# Altium integrated library Maxim Logic Multiplexer.IntLib: 168 symbols (part 2 of 4)
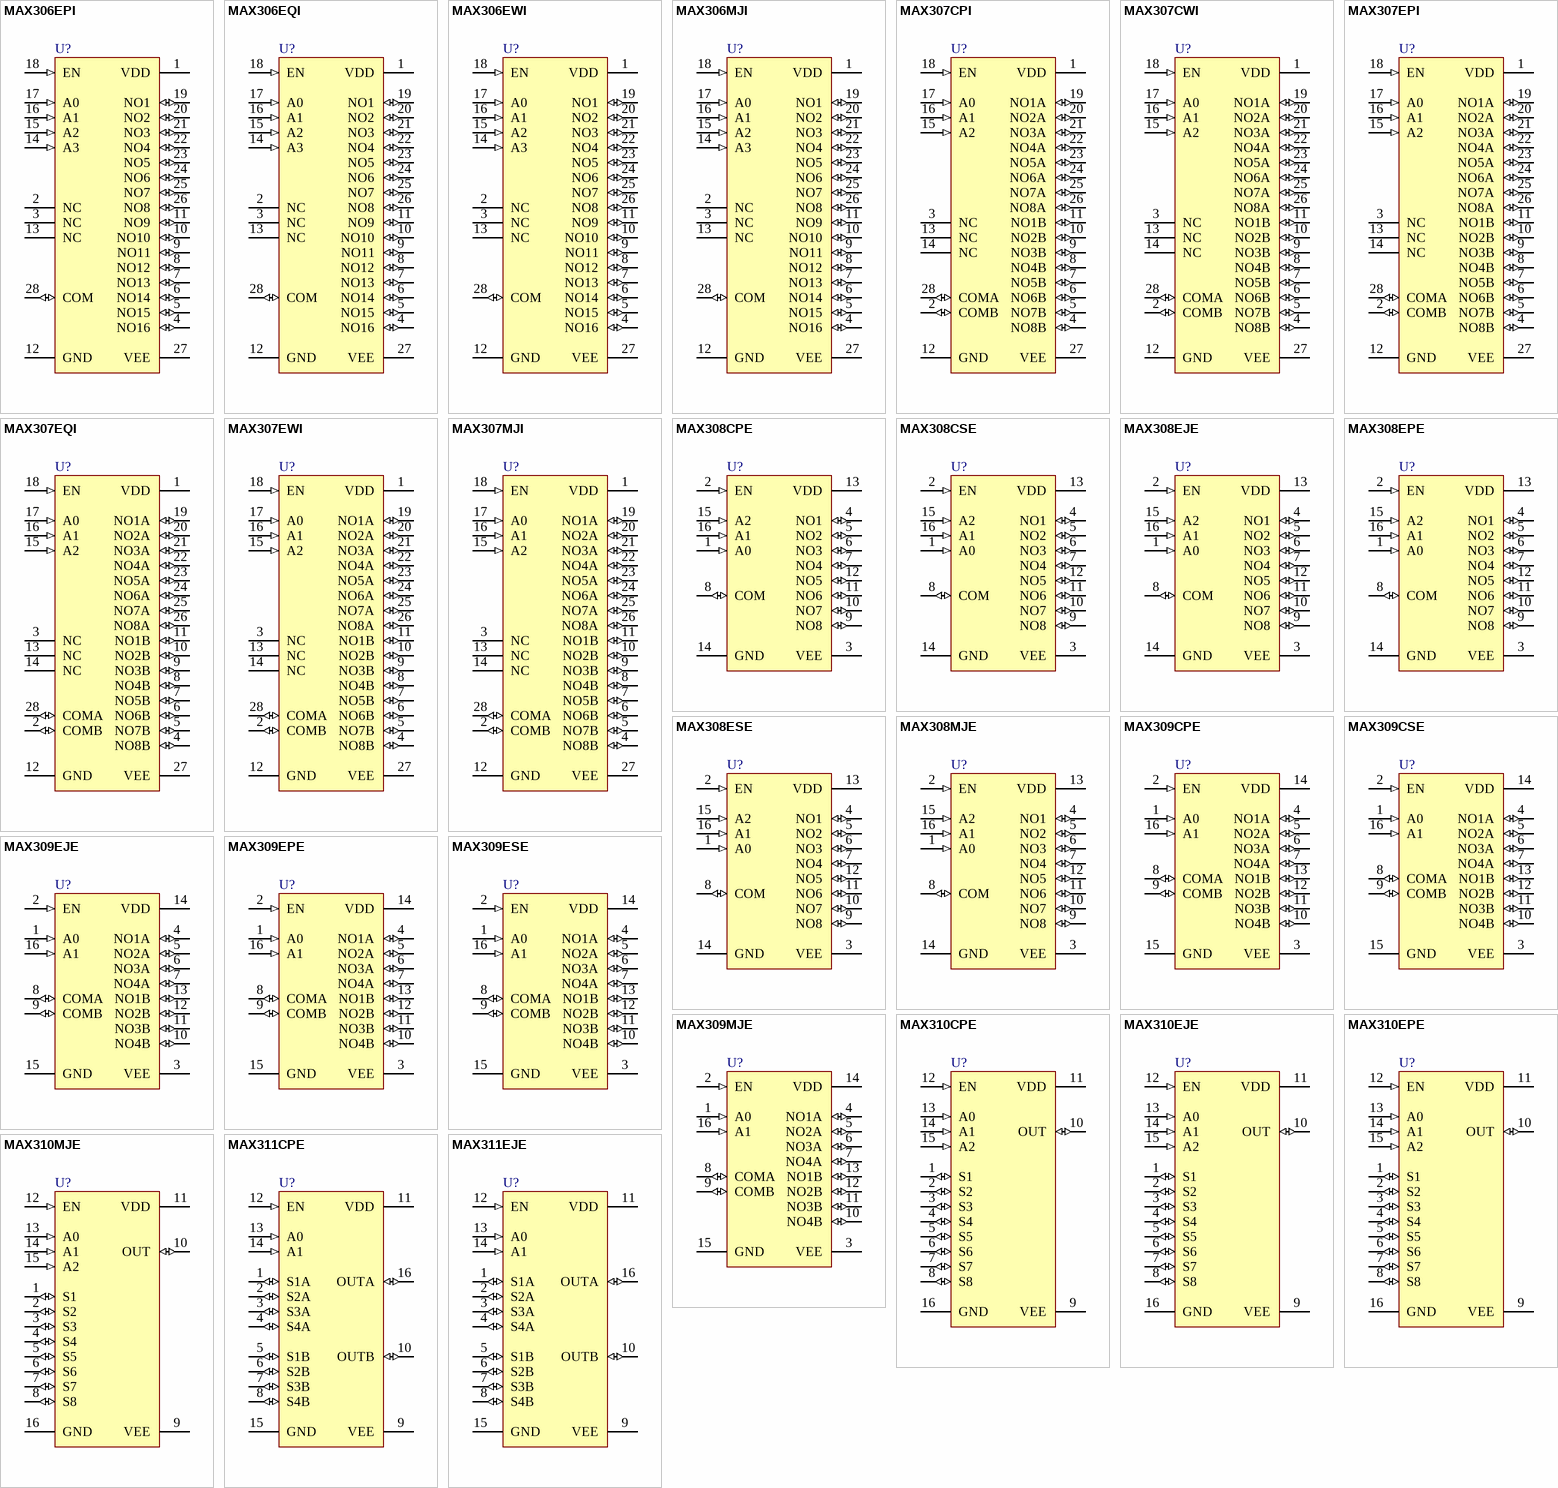
[diagram p7: symbols MAX306EPI to MAX311EJE]

## MAX309ESE
designator U?
Precision, Dual 4-Channel, High-Performance, CMOS Analog Multiplexer; Published: 16-Jan-2001; LatestRevisionDate: 13-Apr-2006; LatestRevisionNote: IPC-7351 Footprint Added.; DatasheetVersion: Jul-1994; PackageReference: NSO16; Publisher: Altium Limited; PackageDescription: 16-Pin Small Outline Integrated Circuit 1.27 mm Pitch; Code_JEDEC: MS-012-AC; Code_IPC: SOIC127P600-16; ComponentLink1Description: Manufacturer Link; ComponentLink1URL: http://www.maxim-ic.com/; ComponentLink2Description: Datasheet; ComponentLink2URL: http://pdfserv.maxim-ic.com/en/ds/MAX308-MAX309.pdf
footprint NSO16_N (SOIC, 16-Leads, Body 9.9x3.9mm, Pitch 1.27mm, IPC Medium Density)
footprint NSO16_L (SOIC, 16-Leads, Body 9.9x3.9mm, Pitch 1.27mm, IPC High Density)
footprint NSO16_M (SOIC, 16-Leads, Body 9.9x3.9mm, Pitch 1.27mm, IPC Low Density)
3D model NSO16 (16-Pin Small Outline Integrated Circuit 1.27 mm Pitch)
pins: 1 A0 (in), 2 EN (in), 3 VEE (power), 4 NO1A (io), 5 NO2A (io), 6 NO3A (io), 7 NO4A (io), 8 COMA (io), 9 COMB (io), 10 NO4B (io), 11 NO3B (io), 12 NO2B (io), 13 NO1B (io), 14 VDD (power), 15 GND (power), 16 A1 (in)

## MAX309MJE
designator U?
Precision, Dual 4-Channel, High-Performance, CMOS Analog Multiplexer; Published: 16-Jan-2001; LatestRevisionDate: 29-May-2009; LatestRevisionNote: Component Body Added.; DatasheetVersion: Jul-1994; PackageVersion: 1996; PackageReference: JE16; Publisher: Altium Limited; PackageDescription: DIP, 16-Pin, Row Spacing 7.62 mm, Pitch 2.54 mm; ComponentLink1Description: Manufacturer Link; ComponentLink1URL: http://www.maxim-ic.com/; ComponentLink2Description: Datasheet; ComponentLink2URL: http://pdfserv.maxim-ic.com/en/ds/MAX308-MAX309.pdf
footprint JE16 (DIP, 16-Leads, Row Spacing 7.62mm, Pitch 2.54mm, Body 20.37x6.73mm)
3D model JE16 (DIP, 16-Pin, Row Spacing 7.62 mm, Pitch 2.54 mm)
pins: 1 A0 (in), 2 EN (in), 3 VEE (power), 4 NO1A (io), 5 NO2A (io), 6 NO3A (io), 7 NO4A (io), 8 COMA (io), 9 COMB (io), 10 NO4B (io), 11 NO3B (io), 12 NO2B (io), 13 NO1B (io), 14 VDD (power), 15 GND (power), 16 A1 (in)

## MAX310CPE
designator U?
CMOS RF/Video Multiplexer; Published: 16-Jan-2001; LatestRevisionDate: 29-May-2009; LatestRevisionNote: Component Body Added.; PackageVersion: 1997; PackageReference: PE16A; Publisher: Altium Limited; PackageDescription: DIP, 16-Pin, Row Spacing 7.62 mm, Pitch 2.54 mm; Code_JEDEC: MS-001-BB; ComponentLink1Description: Manufacturer Link; ComponentLink1URL: http://www.maxim-ic.com/; ComponentLink2Description: Datasheet; ComponentLink2URL: http://pdfserv.maxim-ic.com/en/ds/MAX310-MAX311.pdf
footprint PE16A (DIP, 16-Leads, Row Spacing 7.62mm, Pitch 2.54mm, Body 19.18x6.99mm)
3D model PE16 (DIP, 16-Pin, Row Spacing 7.62 mm, Pitch 2.54 mm)
pins: 1 S1 (io), 2 S2 (io), 3 S3 (io), 4 S4 (io), 5 S5 (io), 6 S6 (io), 7 S7 (io), 8 S8 (io), 9 VEE (power), 10 OUT (io), 11 VDD (power), 12 EN (in), 13 A0 (in), 14 A1 (in), 15 A2 (in), 16 GND (power)

## MAX310EJE
designator U?
CMOS RF/Video Multiplexer; Published: 16-Jan-2001; LatestRevisionDate: 29-May-2009; LatestRevisionNote: Component Body Added.; PackageVersion: 1996; PackageReference: JE16; Publisher: Altium Limited; PackageDescription: DIP, 16-Pin, Row Spacing 7.62 mm, Pitch 2.54 mm; ComponentLink1Description: Manufacturer Link; ComponentLink1URL: http://www.maxim-ic.com/; ComponentLink2Description: Datasheet; ComponentLink2URL: http://pdfserv.maxim-ic.com/en/ds/MAX310-MAX311.pdf
footprint JE16 (DIP, 16-Leads, Row Spacing 7.62mm, Pitch 2.54mm, Body 20.37x6.73mm)
3D model JE16 (DIP, 16-Pin, Row Spacing 7.62 mm, Pitch 2.54 mm)
pins: 1 S1 (io), 2 S2 (io), 3 S3 (io), 4 S4 (io), 5 S5 (io), 6 S6 (io), 7 S7 (io), 8 S8 (io), 9 VEE (power), 10 OUT (io), 11 VDD (power), 12 EN (in), 13 A0 (in), 14 A1 (in), 15 A2 (in), 16 GND (power)

## MAX310EPE
designator U?
CMOS RF/Video Multiplexer; Published: 16-Jan-2001; LatestRevisionDate: 29-May-2009; LatestRevisionNote: Component Body Added.; PackageVersion: 1997; PackageReference: PE16A; Publisher: Altium Limited; PackageDescription: DIP, 16-Pin, Row Spacing 7.62 mm, Pitch 2.54 mm; Code_JEDEC: MS-001-BB; ComponentLink1Description: Manufacturer Link; ComponentLink1URL: http://www.maxim-ic.com/; ComponentLink2Description: Datasheet; ComponentLink2URL: http://pdfserv.maxim-ic.com/en/ds/MAX310-MAX311.pdf
footprint PE16A (DIP, 16-Leads, Row Spacing 7.62mm, Pitch 2.54mm, Body 19.18x6.99mm)
3D model PE16 (DIP, 16-Pin, Row Spacing 7.62 mm, Pitch 2.54 mm)
pins: 1 S1 (io), 2 S2 (io), 3 S3 (io), 4 S4 (io), 5 S5 (io), 6 S6 (io), 7 S7 (io), 8 S8 (io), 9 VEE (power), 10 OUT (io), 11 VDD (power), 12 EN (in), 13 A0 (in), 14 A1 (in), 15 A2 (in), 16 GND (power)

## MAX310MJE
designator U?
CMOS RF/Video Multiplexer; Published: 16-Jan-2001; LatestRevisionDate: 29-May-2009; LatestRevisionNote: Component Body Added.; PackageVersion: 1996; PackageReference: JE16; Publisher: Altium Limited; PackageDescription: DIP, 16-Pin, Row Spacing 7.62 mm, Pitch 2.54 mm; ComponentLink1Description: Manufacturer Link; ComponentLink1URL: http://www.maxim-ic.com/; ComponentLink2Description: Datasheet; ComponentLink2URL: http://pdfserv.maxim-ic.com/en/ds/MAX310-MAX311.pdf
footprint JE16 (DIP, 16-Leads, Row Spacing 7.62mm, Pitch 2.54mm, Body 20.37x6.73mm)
3D model JE16 (DIP, 16-Pin, Row Spacing 7.62 mm, Pitch 2.54 mm)
pins: 1 S1 (io), 2 S2 (io), 3 S3 (io), 4 S4 (io), 5 S5 (io), 6 S6 (io), 7 S7 (io), 8 S8 (io), 9 VEE (power), 10 OUT (io), 11 VDD (power), 12 EN (in), 13 A0 (in), 14 A1 (in), 15 A2 (in), 16 GND (power)

## MAX311CPE
designator U?
CMOS RF/Video Multiplexer; Published: 16-Jan-2001; LatestRevisionDate: 29-May-2009; LatestRevisionNote: Component Body Added.; PackageVersion: 1997; PackageReference: PE16A; Publisher: Altium Limited; PackageDescription: DIP, 16-Pin, Row Spacing 7.62 mm, Pitch 2.54 mm; Code_JEDEC: MS-001-BB; ComponentLink1Description: Manufacturer Link; ComponentLink1URL: http://www.maxim-ic.com/; ComponentLink2Description: Datasheet; ComponentLink2URL: http://pdfserv.maxim-ic.com/en/ds/MAX310-MAX311.pdf
footprint PE16A (DIP, 16-Leads, Row Spacing 7.62mm, Pitch 2.54mm, Body 19.18x6.99mm)
3D model PE16 (DIP, 16-Pin, Row Spacing 7.62 mm, Pitch 2.54 mm)
pins: 1 S1A (io), 2 S2A (io), 3 S3A (io), 4 S4A (io), 5 S1B (io), 6 S2B (io), 7 S3B (io), 8 S4B (io), 9 VEE (power), 10 OUTB (io), 11 VDD (power), 12 EN (in), 13 A0 (in), 14 A1 (in), 15 GND (power), 16 OUTA (io)

## MAX311EJE
designator U?
CMOS RF/Video Multiplexer; Published: 16-Jan-2001; LatestRevisionDate: 29-May-2009; LatestRevisionNote: Component Body Added.; PackageVersion: 1996; PackageReference: JE16; Publisher: Altium Limited; PackageDescription: DIP, 16-Pin, Row Spacing 7.62 mm, Pitch 2.54 mm; ComponentLink1Description: Manufacturer Link; ComponentLink1URL: http://www.maxim-ic.com/; ComponentLink2Description: Datasheet; ComponentLink2URL: http://pdfserv.maxim-ic.com/en/ds/MAX310-MAX311.pdf
footprint JE16 (DIP, 16-Leads, Row Spacing 7.62mm, Pitch 2.54mm, Body 20.37x6.73mm)
3D model JE16 (DIP, 16-Pin, Row Spacing 7.62 mm, Pitch 2.54 mm)
pins: 1 S1A (io), 2 S2A (io), 3 S3A (io), 4 S4A (io), 5 S1B (io), 6 S2B (io), 7 S3B (io), 8 S4B (io), 9 VEE (power), 10 OUTB (io), 11 VDD (power), 12 EN (in), 13 A0 (in), 14 A1 (in), 15 GND (power), 16 OUTA (io)

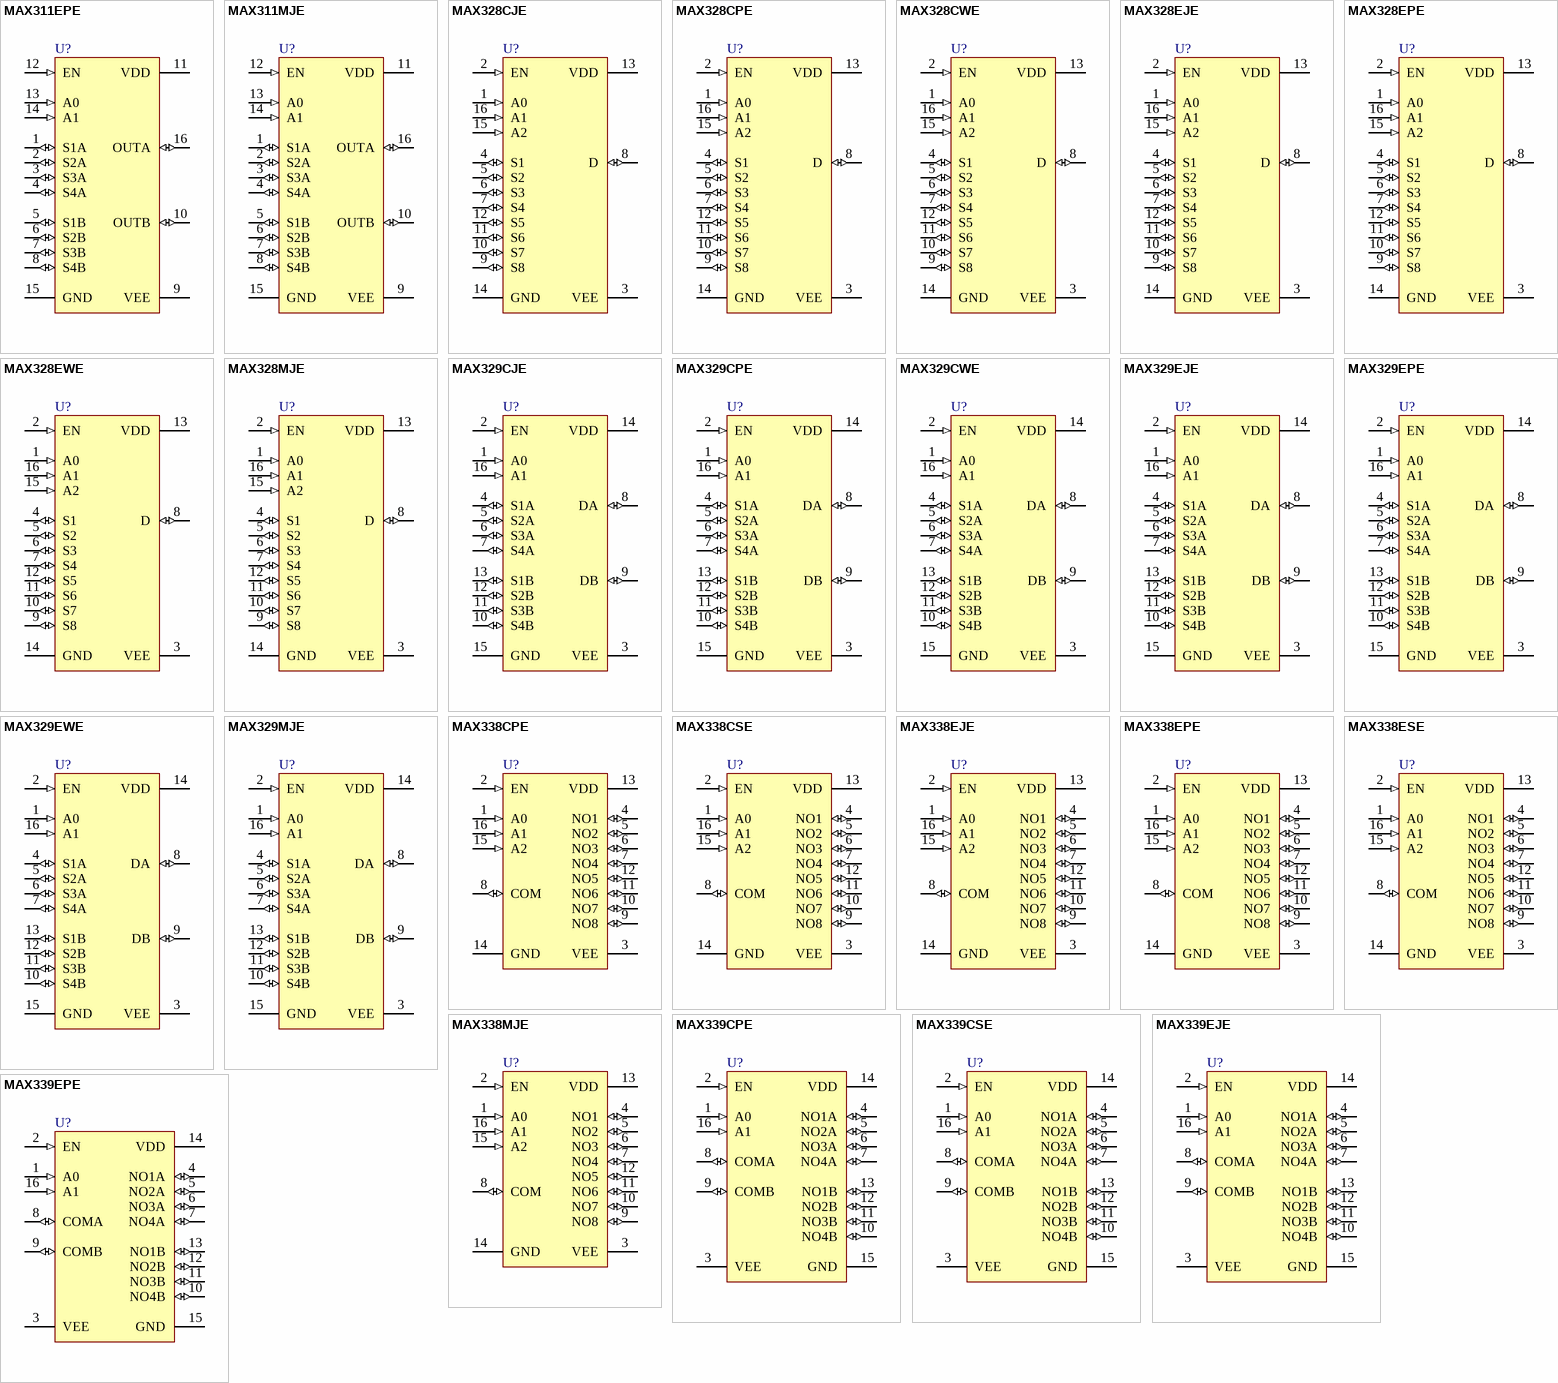
[diagram p2: symbols MAX311EPE to MAX339EPE]

## MAX311EPE
designator U?
CMOS RF/Video Multiplexer; Published: 16-Jan-2001; LatestRevisionDate: 29-May-2009; LatestRevisionNote: Component Body Added.; PackageVersion: 1997; PackageReference: PE16A; Publisher: Altium Limited; PackageDescription: DIP, 16-Pin, Row Spacing 7.62 mm, Pitch 2.54 mm; Code_JEDEC: MS-001-BB; ComponentLink1Description: Manufacturer Link; ComponentLink1URL: http://www.maxim-ic.com/; ComponentLink2Description: Datasheet; ComponentLink2URL: http://pdfserv.maxim-ic.com/en/ds/MAX310-MAX311.pdf
footprint PE16A (DIP, 16-Leads, Row Spacing 7.62mm, Pitch 2.54mm, Body 19.18x6.99mm)
3D model PE16 (DIP, 16-Pin, Row Spacing 7.62 mm, Pitch 2.54 mm)
pins: 1 S1A (io), 2 S2A (io), 3 S3A (io), 4 S4A (io), 5 S1B (io), 6 S2B (io), 7 S3B (io), 8 S4B (io), 9 VEE (power), 10 OUTB (io), 11 VDD (power), 12 EN (in), 13 A0 (in), 14 A1 (in), 15 GND (power), 16 OUTA (io)

## MAX311MJE
designator U?
CMOS RF/Video Multiplexer; Published: 16-Jan-2001; LatestRevisionDate: 29-May-2009; LatestRevisionNote: Component Body Added.; PackageVersion: 1996; PackageReference: JE16; Publisher: Altium Limited; PackageDescription: DIP, 16-Pin, Row Spacing 7.62 mm, Pitch 2.54 mm; ComponentLink1Description: Manufacturer Link; ComponentLink1URL: http://www.maxim-ic.com/; ComponentLink2Description: Datasheet; ComponentLink2URL: http://pdfserv.maxim-ic.com/en/ds/MAX310-MAX311.pdf
footprint JE16 (DIP, 16-Leads, Row Spacing 7.62mm, Pitch 2.54mm, Body 20.37x6.73mm)
3D model JE16 (DIP, 16-Pin, Row Spacing 7.62 mm, Pitch 2.54 mm)
pins: 1 S1A (io), 2 S2A (io), 3 S3A (io), 4 S4A (io), 5 S1B (io), 6 S2B (io), 7 S3B (io), 8 S4B (io), 9 VEE (power), 10 OUTB (io), 11 VDD (power), 12 EN (in), 13 A0 (in), 14 A1 (in), 15 GND (power), 16 OUTA (io)

## MAX328CJE
designator U?
Ultra-Low Leakage Monolithic CMOS Analog Multiplexer; Published: 16-Jan-2001; LatestRevisionDate: 29-May-2009; LatestRevisionNote: Component Body Added.; DatasheetVersion: Oct-1994; PackageVersion: 1996; PackageReference: JE16; Publisher: Altium Limited; PackageDescription: DIP, 16-Pin, Row Spacing 7.62 mm, Pitch 2.54 mm; ComponentLink1Description: Manufacturer Link; ComponentLink1URL: http://www.maxim-ic.com/; ComponentLink2Description: Datasheet; ComponentLink2URL: http://pdfserv.maxim-ic.com/en/ds/MAX328-MAX329.pdf
footprint JE16 (DIP, 16-Leads, Row Spacing 7.62mm, Pitch 2.54mm, Body 20.37x6.73mm)
3D model JE16 (DIP, 16-Pin, Row Spacing 7.62 mm, Pitch 2.54 mm)
pins: 1 A0 (in), 2 EN (in), 3 VEE (power), 4 S1 (io), 5 S2 (io), 6 S3 (io), 7 S4 (io), 8 D (io), 9 S8 (io), 10 S7 (io), 11 S6 (io), 12 S5 (io), 13 VDD (power), 14 GND (power), 15 A2 (in), 16 A1 (in)

## MAX328CPE
designator U?
Ultra-Low Leakage Monolithic CMOS Analog Multiplexer; Published: 16-Jan-2001; LatestRevisionDate: 29-May-2009; LatestRevisionNote: Component Body Added.; DatasheetVersion: Oct-1994; PackageVersion: 1997; PackageReference: PE16A; Publisher: Altium Limited; PackageDescription: DIP, 16-Pin, Row Spacing 7.62 mm, Pitch 2.54 mm; Code_JEDEC: MS-001-BB; ComponentLink1Description: Manufacturer Link; ComponentLink1URL: http://www.maxim-ic.com/; ComponentLink2Description: Datasheet; ComponentLink2URL: http://pdfserv.maxim-ic.com/en/ds/MAX328-MAX329.pdf
footprint PE16A (DIP, 16-Leads, Row Spacing 7.62mm, Pitch 2.54mm, Body 19.18x6.99mm)
3D model PE16 (DIP, 16-Pin, Row Spacing 7.62 mm, Pitch 2.54 mm)
pins: 1 A0 (in), 2 EN (in), 3 VEE (power), 4 S1 (io), 5 S2 (io), 6 S3 (io), 7 S4 (io), 8 D (io), 9 S8 (io), 10 S7 (io), 11 S6 (io), 12 S5 (io), 13 VDD (power), 14 GND (power), 15 A2 (in), 16 A1 (in)

## MAX328CWE
designator U?
Ultra-Low Leakage Monolithic CMOS Analog Multiplexer; Published: 16-Jan-2001; LatestRevisionDate: 13-Apr-2006; LatestRevisionNote: IPC-7351 Footprint Added.; DatasheetVersion: Oct-1994; PackageReference: WSO16; Publisher: Altium Limited; PackageDescription: 16-Pin Small Outline Integrated Circuit 1.27 mm Pitch; Code_JEDEC: MS-013-AA; Code_IPC: SOIC127P1030-16; ComponentLink1Description: Manufacturer Link; ComponentLink1URL: http://www.maxim-ic.com/; ComponentLink2Description: Datasheet; ComponentLink2URL: http://pdfserv.maxim-ic.com/en/ds/MAX328-MAX329.pdf
footprint WSO16_N (SOIC, 16-Leads, Body 10.3x7.5mm, Pitch 1.27mm, IPC Medium Density)
footprint WSO16_L (SOIC, 16-Leads, Body 10.3x7.5mm, Pitch 1.27mm, IPC High Density)
footprint WSO16_M (SOIC, 16-Leads, Body 10.3x7.5mm, Pitch 1.27mm, IPC Low Density)
3D model WSO16 (16-Pin Small Outline Integrated Circuit 1.27 mm Pitch)
pins: 1 A0 (in), 2 EN (in), 3 VEE (power), 4 S1 (io), 5 S2 (io), 6 S3 (io), 7 S4 (io), 8 D (io), 9 S8 (io), 10 S7 (io), 11 S6 (io), 12 S5 (io), 13 VDD (power), 14 GND (power), 15 A2 (in), 16 A1 (in)

## MAX328EJE
designator U?
Ultra-Low Leakage Monolithic CMOS Analog Multiplexer; Published: 16-Jan-2001; LatestRevisionDate: 29-May-2009; LatestRevisionNote: Component Body Added.; DatasheetVersion: Oct-1994; PackageVersion: 1996; PackageReference: JE16; Publisher: Altium Limited; PackageDescription: DIP, 16-Pin, Row Spacing 7.62 mm, Pitch 2.54 mm; ComponentLink1Description: Manufacturer Link; ComponentLink1URL: http://www.maxim-ic.com/; ComponentLink2Description: Datasheet; ComponentLink2URL: http://pdfserv.maxim-ic.com/en/ds/MAX328-MAX329.pdf
footprint JE16 (DIP, 16-Leads, Row Spacing 7.62mm, Pitch 2.54mm, Body 20.37x6.73mm)
3D model JE16 (DIP, 16-Pin, Row Spacing 7.62 mm, Pitch 2.54 mm)
pins: 1 A0 (in), 2 EN (in), 3 VEE (power), 4 S1 (io), 5 S2 (io), 6 S3 (io), 7 S4 (io), 8 D (io), 9 S8 (io), 10 S7 (io), 11 S6 (io), 12 S5 (io), 13 VDD (power), 14 GND (power), 15 A2 (in), 16 A1 (in)

## MAX328EPE
designator U?
Ultra-Low Leakage Monolithic CMOS Analog Multiplexer; Published: 16-Jan-2001; LatestRevisionDate: 29-May-2009; LatestRevisionNote: Component Body Added.; DatasheetVersion: Oct-1994; PackageVersion: 1997; PackageReference: PE16A; Publisher: Altium Limited; PackageDescription: DIP, 16-Pin, Row Spacing 7.62 mm, Pitch 2.54 mm; Code_JEDEC: MS-001-BB; ComponentLink1Description: Manufacturer Link; ComponentLink1URL: http://www.maxim-ic.com/; ComponentLink2Description: Datasheet; ComponentLink2URL: http://pdfserv.maxim-ic.com/en/ds/MAX328-MAX329.pdf
footprint PE16A (DIP, 16-Leads, Row Spacing 7.62mm, Pitch 2.54mm, Body 19.18x6.99mm)
3D model PE16 (DIP, 16-Pin, Row Spacing 7.62 mm, Pitch 2.54 mm)
pins: 1 A0 (in), 2 EN (in), 3 VEE (power), 4 S1 (io), 5 S2 (io), 6 S3 (io), 7 S4 (io), 8 D (io), 9 S8 (io), 10 S7 (io), 11 S6 (io), 12 S5 (io), 13 VDD (power), 14 GND (power), 15 A2 (in), 16 A1 (in)

## MAX328EWE
designator U?
Ultra-Low Leakage Monolithic CMOS Analog Multiplexer; Published: 16-Jan-2001; LatestRevisionDate: 13-Apr-2006; LatestRevisionNote: IPC-7351 Footprint Added.; DatasheetVersion: Oct-1994; PackageReference: WSO16; Publisher: Altium Limited; PackageDescription: 16-Pin Small Outline Integrated Circuit 1.27 mm Pitch; Code_JEDEC: MS-013-AA; Code_IPC: SOIC127P1030-16; ComponentLink1Description: Manufacturer Link; ComponentLink1URL: http://www.maxim-ic.com/; ComponentLink2Description: Datasheet; ComponentLink2URL: http://pdfserv.maxim-ic.com/en/ds/MAX328-MAX329.pdf
footprint WSO16_N (SOIC, 16-Leads, Body 10.3x7.5mm, Pitch 1.27mm, IPC Medium Density)
footprint WSO16_L (SOIC, 16-Leads, Body 10.3x7.5mm, Pitch 1.27mm, IPC High Density)
footprint WSO16_M (SOIC, 16-Leads, Body 10.3x7.5mm, Pitch 1.27mm, IPC Low Density)
3D model WSO16 (16-Pin Small Outline Integrated Circuit 1.27 mm Pitch)
pins: 1 A0 (in), 2 EN (in), 3 VEE (power), 4 S1 (io), 5 S2 (io), 6 S3 (io), 7 S4 (io), 8 D (io), 9 S8 (io), 10 S7 (io), 11 S6 (io), 12 S5 (io), 13 VDD (power), 14 GND (power), 15 A2 (in), 16 A1 (in)

## MAX328MJE
designator U?
Ultra-Low Leakage Monolithic CMOS Analog Multiplexer; Published: 16-Jan-2001; LatestRevisionDate: 29-May-2009; LatestRevisionNote: Component Body Added.; DatasheetVersion: Oct-1994; PackageVersion: 1996; PackageReference: JE16; Publisher: Altium Limited; PackageDescription: DIP, 16-Pin, Row Spacing 7.62 mm, Pitch 2.54 mm; ComponentLink1Description: Manufacturer Link; ComponentLink1URL: http://www.maxim-ic.com/; ComponentLink2Description: Datasheet; ComponentLink2URL: http://pdfserv.maxim-ic.com/en/ds/MAX328-MAX329.pdf
footprint JE16 (DIP, 16-Leads, Row Spacing 7.62mm, Pitch 2.54mm, Body 20.37x6.73mm)
3D model JE16 (DIP, 16-Pin, Row Spacing 7.62 mm, Pitch 2.54 mm)
pins: 1 A0 (in), 2 EN (in), 3 VEE (power), 4 S1 (io), 5 S2 (io), 6 S3 (io), 7 S4 (io), 8 D (io), 9 S8 (io), 10 S7 (io), 11 S6 (io), 12 S5 (io), 13 VDD (power), 14 GND (power), 15 A2 (in), 16 A1 (in)

## MAX329CJE
designator U?
Ultra-Low Leakage Monolithic CMOS Analog Multiplexer; Published: 16-Jan-2001; LatestRevisionDate: 29-May-2009; LatestRevisionNote: Component Body Added.; DatasheetVersion: Oct-1994; PackageVersion: 1996; PackageReference: JE16; Publisher: Altium Limited; PackageDescription: DIP, 16-Pin, Row Spacing 7.62 mm, Pitch 2.54 mm; ComponentLink1Description: Manufacturer Link; ComponentLink1URL: http://www.maxim-ic.com/; ComponentLink2Description: Datasheet; ComponentLink2URL: http://pdfserv.maxim-ic.com/en/ds/MAX328-MAX329.pdf
footprint JE16 (DIP, 16-Leads, Row Spacing 7.62mm, Pitch 2.54mm, Body 20.37x6.73mm)
3D model JE16 (DIP, 16-Pin, Row Spacing 7.62 mm, Pitch 2.54 mm)
pins: 1 A0 (in), 2 EN (in), 3 VEE (power), 4 S1A (io), 5 S2A (io), 6 S3A (io), 7 S4A (io), 8 DA (io), 9 DB (io), 10 S4B (io), 11 S3B (io), 12 S2B (io), 13 S1B (io), 14 VDD (power), 15 GND (power), 16 A1 (in)

## MAX329CPE
designator U?
Ultra-Low Leakage Monolithic CMOS Analog Multiplexer; Published: 16-Jan-2001; LatestRevisionDate: 29-May-2009; LatestRevisionNote: Component Body Added.; DatasheetVersion: Oct-1994; PackageVersion: 1997; PackageReference: PE16A; Publisher: Altium Limited; PackageDescription: DIP, 16-Pin, Row Spacing 7.62 mm, Pitch 2.54 mm; Code_JEDEC: MS-001-BB; ComponentLink1Description: Manufacturer Link; ComponentLink1URL: http://www.maxim-ic.com/; ComponentLink2Description: Datasheet; ComponentLink2URL: http://pdfserv.maxim-ic.com/en/ds/MAX328-MAX329.pdf
footprint PE16A (DIP, 16-Leads, Row Spacing 7.62mm, Pitch 2.54mm, Body 19.18x6.99mm)
3D model PE16 (DIP, 16-Pin, Row Spacing 7.62 mm, Pitch 2.54 mm)
pins: 1 A0 (in), 2 EN (in), 3 VEE (power), 4 S1A (io), 5 S2A (io), 6 S3A (io), 7 S4A (io), 8 DA (io), 9 DB (io), 10 S4B (io), 11 S3B (io), 12 S2B (io), 13 S1B (io), 14 VDD (power), 15 GND (power), 16 A1 (in)

## MAX329CWE
designator U?
Ultra-Low Leakage Monolithic CMOS Analog Multiplexer; Published: 16-Jan-2001; LatestRevisionDate: 13-Apr-2006; LatestRevisionNote: IPC-7351 Footprint Added.; DatasheetVersion: Oct-1994; PackageReference: WSO16; Publisher: Altium Limited; PackageDescription: 16-Pin Small Outline Integrated Circuit 1.27 mm Pitch; Code_JEDEC: MS-013-AA; Code_IPC: SOIC127P1030-16; ComponentLink1Description: Manufacturer Link; ComponentLink1URL: http://www.maxim-ic.com/; ComponentLink2Description: Datasheet; ComponentLink2URL: http://pdfserv.maxim-ic.com/en/ds/MAX328-MAX329.pdf
footprint WSO16_N (SOIC, 16-Leads, Body 10.3x7.5mm, Pitch 1.27mm, IPC Medium Density)
footprint WSO16_L (SOIC, 16-Leads, Body 10.3x7.5mm, Pitch 1.27mm, IPC High Density)
footprint WSO16_M (SOIC, 16-Leads, Body 10.3x7.5mm, Pitch 1.27mm, IPC Low Density)
3D model WSO16 (16-Pin Small Outline Integrated Circuit 1.27 mm Pitch)
pins: 1 A0 (in), 2 EN (in), 3 VEE (power), 4 S1A (io), 5 S2A (io), 6 S3A (io), 7 S4A (io), 8 DA (io), 9 DB (io), 10 S4B (io), 11 S3B (io), 12 S2B (io), 13 S1B (io), 14 VDD (power), 15 GND (power), 16 A1 (in)

## MAX329EJE
designator U?
Ultra-Low Leakage Monolithic CMOS Analog Multiplexer; Published: 16-Jan-2001; LatestRevisionDate: 29-May-2009; LatestRevisionNote: Component Body Added.; DatasheetVersion: Oct-1994; PackageVersion: 1996; PackageReference: JE16; Publisher: Altium Limited; PackageDescription: DIP, 16-Pin, Row Spacing 7.62 mm, Pitch 2.54 mm; ComponentLink1Description: Manufacturer Link; ComponentLink1URL: http://www.maxim-ic.com/; ComponentLink2Description: Datasheet; ComponentLink2URL: http://pdfserv.maxim-ic.com/en/ds/MAX328-MAX329.pdf
footprint JE16 (DIP, 16-Leads, Row Spacing 7.62mm, Pitch 2.54mm, Body 20.37x6.73mm)
3D model JE16 (DIP, 16-Pin, Row Spacing 7.62 mm, Pitch 2.54 mm)
pins: 1 A0 (in), 2 EN (in), 3 VEE (power), 4 S1A (io), 5 S2A (io), 6 S3A (io), 7 S4A (io), 8 DA (io), 9 DB (io), 10 S4B (io), 11 S3B (io), 12 S2B (io), 13 S1B (io), 14 VDD (power), 15 GND (power), 16 A1 (in)

## MAX329EPE
designator U?
Ultra-Low Leakage Monolithic CMOS Analog Multiplexer; Published: 16-Jan-2001; LatestRevisionDate: 29-May-2009; LatestRevisionNote: Component Body Added.; DatasheetVersion: Oct-1994; PackageVersion: 1997; PackageReference: PE16A; Publisher: Altium Limited; PackageDescription: DIP, 16-Pin, Row Spacing 7.62 mm, Pitch 2.54 mm; Code_JEDEC: MS-001-BB; ComponentLink1Description: Manufacturer Link; ComponentLink1URL: http://www.maxim-ic.com/; ComponentLink2Description: Datasheet; ComponentLink2URL: http://pdfserv.maxim-ic.com/en/ds/MAX328-MAX329.pdf
footprint PE16A (DIP, 16-Leads, Row Spacing 7.62mm, Pitch 2.54mm, Body 19.18x6.99mm)
3D model PE16 (DIP, 16-Pin, Row Spacing 7.62 mm, Pitch 2.54 mm)
pins: 1 A0 (in), 2 EN (in), 3 VEE (power), 4 S1A (io), 5 S2A (io), 6 S3A (io), 7 S4A (io), 8 DA (io), 9 DB (io), 10 S4B (io), 11 S3B (io), 12 S2B (io), 13 S1B (io), 14 VDD (power), 15 GND (power), 16 A1 (in)

## MAX329EWE
designator U?
Ultra-Low Leakage Monolithic CMOS Analog Multiplexer; Published: 16-Jan-2001; LatestRevisionDate: 13-Apr-2006; LatestRevisionNote: IPC-7351 Footprint Added.; DatasheetVersion: Oct-1994; PackageReference: WSO16; Publisher: Altium Limited; PackageDescription: 16-Pin Small Outline Integrated Circuit 1.27 mm Pitch; Code_JEDEC: MS-013-AA; Code_IPC: SOIC127P1030-16; ComponentLink1Description: Manufacturer Link; ComponentLink1URL: http://www.maxim-ic.com/; ComponentLink2Description: Datasheet; ComponentLink2URL: http://pdfserv.maxim-ic.com/en/ds/MAX328-MAX329.pdf
footprint WSO16_N (SOIC, 16-Leads, Body 10.3x7.5mm, Pitch 1.27mm, IPC Medium Density)
footprint WSO16_L (SOIC, 16-Leads, Body 10.3x7.5mm, Pitch 1.27mm, IPC High Density)
footprint WSO16_M (SOIC, 16-Leads, Body 10.3x7.5mm, Pitch 1.27mm, IPC Low Density)
3D model WSO16 (16-Pin Small Outline Integrated Circuit 1.27 mm Pitch)
pins: 1 A0 (in), 2 EN (in), 3 VEE (power), 4 S1A (io), 5 S2A (io), 6 S3A (io), 7 S4A (io), 8 DA (io), 9 DB (io), 10 S4B (io), 11 S3B (io), 12 S2B (io), 13 S1B (io), 14 VDD (power), 15 GND (power), 16 A1 (in)

## MAX329MJE
designator U?
Ultra-Low Leakage Monolithic CMOS Analog Multiplexer; Published: 16-Jan-2001; LatestRevisionDate: 29-May-2009; LatestRevisionNote: Component Body Added.; DatasheetVersion: Oct-1994; PackageVersion: 1996; PackageReference: JE16; Publisher: Altium Limited; PackageDescription: DIP, 16-Pin, Row Spacing 7.62 mm, Pitch 2.54 mm; ComponentLink1Description: Manufacturer Link; ComponentLink1URL: http://www.maxim-ic.com/; ComponentLink2Description: Datasheet; ComponentLink2URL: http://pdfserv.maxim-ic.com/en/ds/MAX328-MAX329.pdf
footprint JE16 (DIP, 16-Leads, Row Spacing 7.62mm, Pitch 2.54mm, Body 20.37x6.73mm)
3D model JE16 (DIP, 16-Pin, Row Spacing 7.62 mm, Pitch 2.54 mm)
pins: 1 A0 (in), 2 EN (in), 3 VEE (power), 4 S1A (io), 5 S2A (io), 6 S3A (io), 7 S4A (io), 8 DA (io), 9 DB (io), 10 S4B (io), 11 S3B (io), 12 S2B (io), 13 S1B (io), 14 VDD (power), 15 GND (power), 16 A1 (in)

## MAX338CPE
designator U?
8-Channel/Low-Leakage, CMOS Analog Multiplexer; Published: 16-Jan-2001; LatestRevisionDate: 29-May-2009; LatestRevisionNote: Component Body Added.; DatasheetVersion: Aug-1994; PackageVersion: 1997; PackageReference: PE16A; Publisher: Altium Limited; PackageDescription: DIP, 16-Pin, Row Spacing 7.62 mm, Pitch 2.54 mm; Code_JEDEC: MS-001-BB; ComponentLink1Description: Manufacturer Link; ComponentLink1URL: http://www.maxim-ic.com/; ComponentLink2Description: Datasheet; ComponentLink2URL: http://pdfserv.maxim-ic.com/en/ds/MAX338-MAX339.pdf
footprint PE16A (DIP, 16-Leads, Row Spacing 7.62mm, Pitch 2.54mm, Body 19.18x6.99mm)
3D model PE16 (DIP, 16-Pin, Row Spacing 7.62 mm, Pitch 2.54 mm)
pins: 1 A0 (in), 2 EN (in), 3 VEE (power), 4 NO1 (io), 5 NO2 (io), 6 NO3 (io), 7 NO4 (io), 8 COM (io), 9 NO8 (io), 10 NO7 (io), 11 NO6 (io), 12 NO5 (io), 13 VDD (power), 14 GND (power), 15 A2 (in), 16 A1 (in)

## MAX338CSE
designator U?
8-Channel/Low-Leakage, CMOS Analog Multiplexer; Published: 16-Jan-2001; LatestRevisionDate: 13-Apr-2006; LatestRevisionNote: IPC-7351 Footprint Added.; DatasheetVersion: Aug-1994; PackageReference: NSO16; Publisher: Altium Limited; PackageDescription: 16-Pin Small Outline Integrated Circuit 1.27 mm Pitch; Code_JEDEC: MS-012-AC; Code_IPC: SOIC127P600-16; ComponentLink1Description: Manufacturer Link; ComponentLink1URL: http://www.maxim-ic.com/; ComponentLink2Description: Datasheet; ComponentLink2URL: http://pdfserv.maxim-ic.com/en/ds/MAX338-MAX339.pdf
footprint NSO16_N (SOIC, 16-Leads, Body 9.9x3.9mm, Pitch 1.27mm, IPC Medium Density)
footprint NSO16_L (SOIC, 16-Leads, Body 9.9x3.9mm, Pitch 1.27mm, IPC High Density)
footprint NSO16_M (SOIC, 16-Leads, Body 9.9x3.9mm, Pitch 1.27mm, IPC Low Density)
3D model NSO16 (16-Pin Small Outline Integrated Circuit 1.27 mm Pitch)
pins: 1 A0 (in), 2 EN (in), 3 VEE (power), 4 NO1 (io), 5 NO2 (io), 6 NO3 (io), 7 NO4 (io), 8 COM (io), 9 NO8 (io), 10 NO7 (io), 11 NO6 (io), 12 NO5 (io), 13 VDD (power), 14 GND (power), 15 A2 (in), 16 A1 (in)

## MAX338EJE
designator U?
8-Channel/Low-Leakage, CMOS Analog Multiplexer; Published: 16-Jan-2001; LatestRevisionDate: 29-May-2009; LatestRevisionNote: Component Body Added.; DatasheetVersion: Aug-1994; PackageVersion: 1996; PackageReference: JE16; Publisher: Altium Limited; PackageDescription: DIP, 16-Pin, Row Spacing 7.62 mm, Pitch 2.54 mm; ComponentLink1Description: Manufacturer Link; ComponentLink1URL: http://www.maxim-ic.com/; ComponentLink2Description: Datasheet; ComponentLink2URL: http://pdfserv.maxim-ic.com/en/ds/MAX338-MAX339.pdf
footprint JE16 (DIP, 16-Leads, Row Spacing 7.62mm, Pitch 2.54mm, Body 20.37x6.73mm)
3D model JE16 (DIP, 16-Pin, Row Spacing 7.62 mm, Pitch 2.54 mm)
pins: 1 A0 (in), 2 EN (in), 3 VEE (power), 4 NO1 (io), 5 NO2 (io), 6 NO3 (io), 7 NO4 (io), 8 COM (io), 9 NO8 (io), 10 NO7 (io), 11 NO6 (io), 12 NO5 (io), 13 VDD (power), 14 GND (power), 15 A2 (in), 16 A1 (in)

## MAX338EPE
designator U?
8-Channel/Low-Leakage, CMOS Analog Multiplexer; Published: 16-Jan-2001; LatestRevisionDate: 29-May-2009; LatestRevisionNote: Component Body Added.; DatasheetVersion: Aug-1994; PackageVersion: 1997; PackageReference: PE16A; Publisher: Altium Limited; PackageDescription: DIP, 16-Pin, Row Spacing 7.62 mm, Pitch 2.54 mm; Code_JEDEC: MS-001-BB; ComponentLink1Description: Manufacturer Link; ComponentLink1URL: http://www.maxim-ic.com/; ComponentLink2Description: Datasheet; ComponentLink2URL: http://pdfserv.maxim-ic.com/en/ds/MAX338-MAX339.pdf
footprint PE16A (DIP, 16-Leads, Row Spacing 7.62mm, Pitch 2.54mm, Body 19.18x6.99mm)
3D model PE16 (DIP, 16-Pin, Row Spacing 7.62 mm, Pitch 2.54 mm)
pins: 1 A0 (in), 2 EN (in), 3 VEE (power), 4 NO1 (io), 5 NO2 (io), 6 NO3 (io), 7 NO4 (io), 8 COM (io), 9 NO8 (io), 10 NO7 (io), 11 NO6 (io), 12 NO5 (io), 13 VDD (power), 14 GND (power), 15 A2 (in), 16 A1 (in)

## MAX338ESE
designator U?
8-Channel/Low-Leakage, CMOS Analog Multiplexer; Published: 16-Jan-2001; LatestRevisionDate: 13-Apr-2006; LatestRevisionNote: IPC-7351 Footprint Added.; DatasheetVersion: Aug-1994; PackageReference: NSO16; Publisher: Altium Limited; PackageDescription: 16-Pin Small Outline Integrated Circuit 1.27 mm Pitch; Code_JEDEC: MS-012-AC; Code_IPC: SOIC127P600-16; ComponentLink1Description: Manufacturer Link; ComponentLink1URL: http://www.maxim-ic.com/; ComponentLink2Description: Datasheet; ComponentLink2URL: http://pdfserv.maxim-ic.com/en/ds/MAX338-MAX339.pdf
footprint NSO16_N (SOIC, 16-Leads, Body 9.9x3.9mm, Pitch 1.27mm, IPC Medium Density)
footprint NSO16_L (SOIC, 16-Leads, Body 9.9x3.9mm, Pitch 1.27mm, IPC High Density)
footprint NSO16_M (SOIC, 16-Leads, Body 9.9x3.9mm, Pitch 1.27mm, IPC Low Density)
3D model NSO16 (16-Pin Small Outline Integrated Circuit 1.27 mm Pitch)
pins: 1 A0 (in), 2 EN (in), 3 VEE (power), 4 NO1 (io), 5 NO2 (io), 6 NO3 (io), 7 NO4 (io), 8 COM (io), 9 NO8 (io), 10 NO7 (io), 11 NO6 (io), 12 NO5 (io), 13 VDD (power), 14 GND (power), 15 A2 (in), 16 A1 (in)

## MAX338MJE
designator U?
8-Channel/Low-Leakage, CMOS Analog Multiplexer; Published: 16-Jan-2001; LatestRevisionDate: 29-May-2009; LatestRevisionNote: Component Body Added.; DatasheetVersion: Aug-1994; PackageVersion: 1996; PackageReference: JE16; Publisher: Altium Limited; PackageDescription: DIP, 16-Pin, Row Spacing 7.62 mm, Pitch 2.54 mm; ComponentLink1Description: Manufacturer Link; ComponentLink1URL: http://www.maxim-ic.com/; ComponentLink2Description: Datasheet; ComponentLink2URL: http://pdfserv.maxim-ic.com/en/ds/MAX338-MAX339.pdf
footprint JE16 (DIP, 16-Leads, Row Spacing 7.62mm, Pitch 2.54mm, Body 20.37x6.73mm)
3D model JE16 (DIP, 16-Pin, Row Spacing 7.62 mm, Pitch 2.54 mm)
pins: 1 A0 (in), 2 EN (in), 3 VEE (power), 4 NO1 (io), 5 NO2 (io), 6 NO3 (io), 7 NO4 (io), 8 COM (io), 9 NO8 (io), 10 NO7 (io), 11 NO6 (io), 12 NO5 (io), 13 VDD (power), 14 GND (power), 15 A2 (in), 16 A1 (in)

## MAX339CPE
designator U?
Dual 4-Channel, Low-Leakage, CMOS Analog Multiplexer; Published: 16-Jan-2001; LatestRevisionDate: 29-May-2009; LatestRevisionNote: Component Body Added.; DatasheetVersion: Aug-1994; PackageVersion: 1997; PackageReference: PE16A; Publisher: Altium Limited; PackageDescription: DIP, 16-Pin, Row Spacing 7.62 mm, Pitch 2.54 mm; Code_JEDEC: MS-001-BB; ComponentLink1Description: Manufacturer Link; ComponentLink1URL: http://www.maxim-ic.com/; ComponentLink2Description: Datasheet; ComponentLink2URL: http://pdfserv.maxim-ic.com/en/ds/MAX338-MAX339.pdf
footprint PE16A (DIP, 16-Leads, Row Spacing 7.62mm, Pitch 2.54mm, Body 19.18x6.99mm)
3D model PE16 (DIP, 16-Pin, Row Spacing 7.62 mm, Pitch 2.54 mm)
pins: 1 A0 (in), 2 EN (in), 3 VEE (power), 4 NO1A (io), 5 NO2A (io), 6 NO3A (io), 7 NO4A (io), 8 COMA (io), 9 COMB (io), 10 NO4B (io), 11 NO3B (io), 12 NO2B (io), 13 NO1B (io), 14 VDD (power), 15 GND (power), 16 A1 (in)

## MAX339CSE
designator U?
Dual 4-Channel, Low-Leakage, CMOS Analog Multiplexer; Published: 16-Jan-2001; LatestRevisionDate: 13-Apr-2006; LatestRevisionNote: IPC-7351 Footprint Added.; DatasheetVersion: Aug-1994; PackageReference: NSO16; Publisher: Altium Limited; PackageDescription: 16-Pin Small Outline Integrated Circuit 1.27 mm Pitch; Code_JEDEC: MS-012-AC; Code_IPC: SOIC127P600-16; ComponentLink1Description: Manufacturer Link; ComponentLink1URL: http://www.maxim-ic.com/; ComponentLink2Description: Datasheet; ComponentLink2URL: http://pdfserv.maxim-ic.com/en/ds/MAX338-MAX339.pdf
footprint NSO16_N (SOIC, 16-Leads, Body 9.9x3.9mm, Pitch 1.27mm, IPC Medium Density)
footprint NSO16_L (SOIC, 16-Leads, Body 9.9x3.9mm, Pitch 1.27mm, IPC High Density)
footprint NSO16_M (SOIC, 16-Leads, Body 9.9x3.9mm, Pitch 1.27mm, IPC Low Density)
3D model NSO16 (16-Pin Small Outline Integrated Circuit 1.27 mm Pitch)
pins: 1 A0 (in), 2 EN (in), 3 VEE (power), 4 NO1A (io), 5 NO2A (io), 6 NO3A (io), 7 NO4A (io), 8 COMA (io), 9 COMB (io), 10 NO4B (io), 11 NO3B (io), 12 NO2B (io), 13 NO1B (io), 14 VDD (power), 15 GND (power), 16 A1 (in)

## MAX339EJE
designator U?
Dual 4-Channel, Low-Leakage, CMOS Analog Multiplexer; Published: 16-Jan-2001; LatestRevisionDate: 29-May-2009; LatestRevisionNote: Component Body Added.; DatasheetVersion: Aug-1994; PackageVersion: 1996; PackageReference: JE16; Publisher: Altium Limited; PackageDescription: DIP, 16-Pin, Row Spacing 7.62 mm, Pitch 2.54 mm; ComponentLink1Description: Manufacturer Link; ComponentLink1URL: http://www.maxim-ic.com/; ComponentLink2Description: Datasheet; ComponentLink2URL: http://pdfserv.maxim-ic.com/en/ds/MAX338-MAX339.pdf
footprint JE16 (DIP, 16-Leads, Row Spacing 7.62mm, Pitch 2.54mm, Body 20.37x6.73mm)
3D model JE16 (DIP, 16-Pin, Row Spacing 7.62 mm, Pitch 2.54 mm)
pins: 1 A0 (in), 2 EN (in), 3 VEE (power), 4 NO1A (io), 5 NO2A (io), 6 NO3A (io), 7 NO4A (io), 8 COMA (io), 9 COMB (io), 10 NO4B (io), 11 NO3B (io), 12 NO2B (io), 13 NO1B (io), 14 VDD (power), 15 GND (power), 16 A1 (in)

## MAX339EPE
designator U?
Dual 4-Channel, Low-Leakage, CMOS Analog Multiplexer; Published: 16-Jan-2001; LatestRevisionDate: 29-May-2009; LatestRevisionNote: Component Body Added.; DatasheetVersion: Aug-1994; PackageVersion: 1997; PackageReference: PE16A; Publisher: Altium Limited; PackageDescription: DIP, 16-Pin, Row Spacing 7.62 mm, Pitch 2.54 mm; Code_JEDEC: MS-001-BB; ComponentLink1Description: Manufacturer Link; ComponentLink1URL: http://www.maxim-ic.com/; ComponentLink2Description: Datasheet; ComponentLink2URL: http://pdfserv.maxim-ic.com/en/ds/MAX338-MAX339.pdf
footprint PE16A (DIP, 16-Leads, Row Spacing 7.62mm, Pitch 2.54mm, Body 19.18x6.99mm)
3D model PE16 (DIP, 16-Pin, Row Spacing 7.62 mm, Pitch 2.54 mm)
pins: 1 A0 (in), 2 EN (in), 3 VEE (power), 4 NO1A (io), 5 NO2A (io), 6 NO3A (io), 7 NO4A (io), 8 COMA (io), 9 COMB (io), 10 NO4B (io), 11 NO3B (io), 12 NO2B (io), 13 NO1B (io), 14 VDD (power), 15 GND (power), 16 A1 (in)

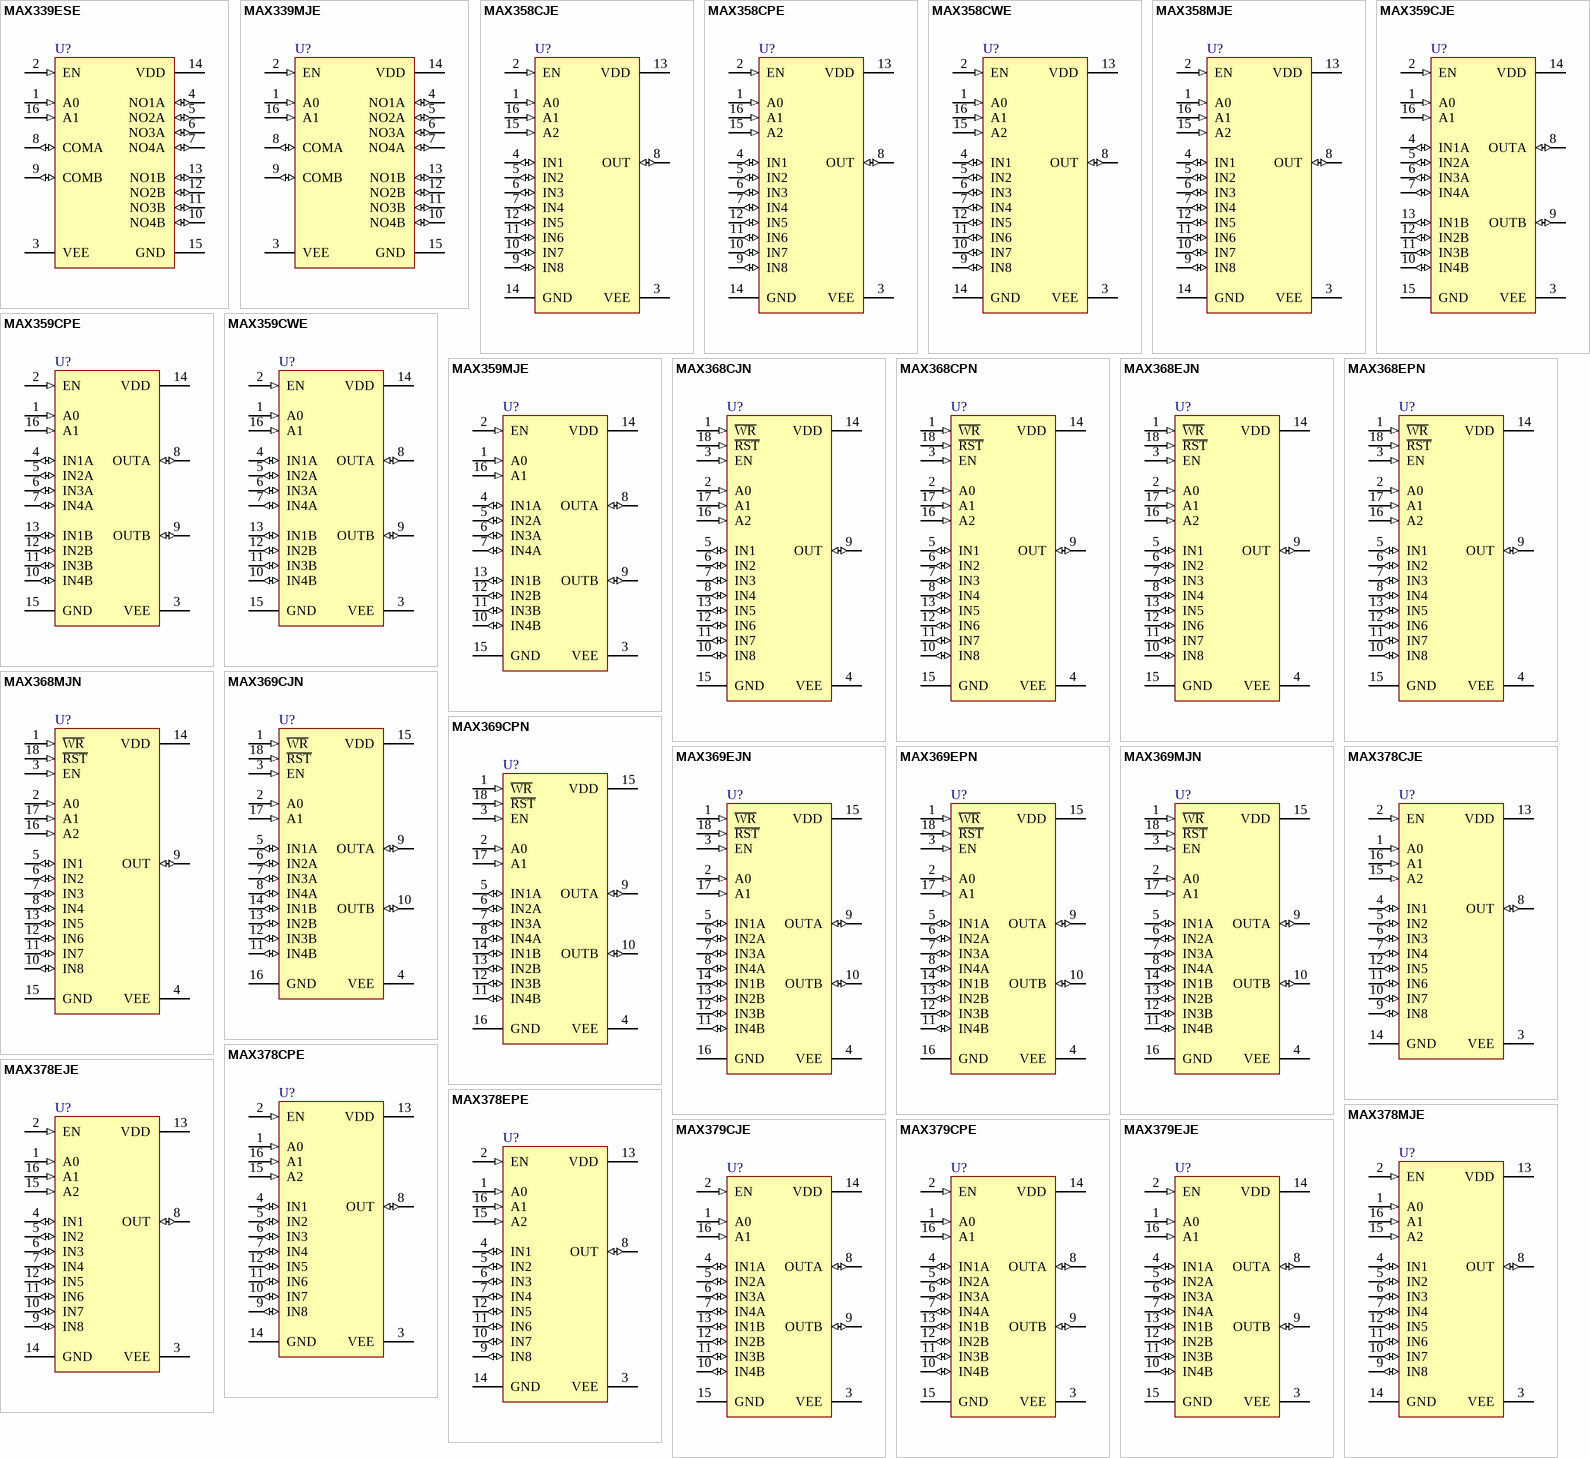
[diagram p3: symbols MAX339ESE to MAX379EJE]

## MAX339ESE
designator U?
Dual 4-Channel, Low-Leakage, CMOS Analog Multiplexer; Published: 16-Jan-2001; LatestRevisionDate: 13-Apr-2006; LatestRevisionNote: IPC-7351 Footprint Added.; DatasheetVersion: Aug-1994; PackageReference: NSO16; Publisher: Altium Limited; PackageDescription: 16-Pin Small Outline Integrated Circuit 1.27 mm Pitch; Code_JEDEC: MS-012-AC; Code_IPC: SOIC127P600-16; ComponentLink1Description: Manufacturer Link; ComponentLink1URL: http://www.maxim-ic.com/; ComponentLink2Description: Datasheet; ComponentLink2URL: http://pdfserv.maxim-ic.com/en/ds/MAX338-MAX339.pdf
footprint NSO16_N (SOIC, 16-Leads, Body 9.9x3.9mm, Pitch 1.27mm, IPC Medium Density)
footprint NSO16_L (SOIC, 16-Leads, Body 9.9x3.9mm, Pitch 1.27mm, IPC High Density)
footprint NSO16_M (SOIC, 16-Leads, Body 9.9x3.9mm, Pitch 1.27mm, IPC Low Density)
3D model NSO16 (16-Pin Small Outline Integrated Circuit 1.27 mm Pitch)
pins: 1 A0 (in), 2 EN (in), 3 VEE (power), 4 NO1A (io), 5 NO2A (io), 6 NO3A (io), 7 NO4A (io), 8 COMA (io), 9 COMB (io), 10 NO4B (io), 11 NO3B (io), 12 NO2B (io), 13 NO1B (io), 14 VDD (power), 15 GND (power), 16 A1 (in)

## MAX339MJE
designator U?
Dual 4-Channel, Low-Leakage, CMOS Analog Multiplexer; Published: 16-Jan-2001; LatestRevisionDate: 29-May-2009; LatestRevisionNote: Component Body Added.; DatasheetVersion: Aug-1994; PackageVersion: 1996; PackageReference: JE16; Publisher: Altium Limited; PackageDescription: DIP, 16-Pin, Row Spacing 7.62 mm, Pitch 2.54 mm; ComponentLink1Description: Manufacturer Link; ComponentLink1URL: http://www.maxim-ic.com/; ComponentLink2Description: Datasheet; ComponentLink2URL: http://pdfserv.maxim-ic.com/en/ds/MAX338-MAX339.pdf
footprint JE16 (DIP, 16-Leads, Row Spacing 7.62mm, Pitch 2.54mm, Body 20.37x6.73mm)
3D model JE16 (DIP, 16-Pin, Row Spacing 7.62 mm, Pitch 2.54 mm)
pins: 1 A0 (in), 2 EN (in), 3 VEE (power), 4 NO1A (io), 5 NO2A (io), 6 NO3A (io), 7 NO4A (io), 8 COMA (io), 9 COMB (io), 10 NO4B (io), 11 NO3B (io), 12 NO2B (io), 13 NO1B (io), 14 VDD (power), 15 GND (power), 16 A1 (in)

## MAX358CJE
designator U?
Fault-Protected Analog Multiplexer; Published: 16-Jan-2001; LatestRevisionDate: 29-May-2009; LatestRevisionNote: Component Body Added.; DatasheetVersion: Apr-1988; PackageVersion: 1996; PackageReference: JE16; Publisher: Altium Limited; PackageDescription: DIP, 16-Pin, Row Spacing 7.62 mm, Pitch 2.54 mm; ComponentLink1Description: Manufacturer Link; ComponentLink1URL: http://www.maxim-ic.com/; ComponentLink2Description: Datasheet; ComponentLink2URL: http://pdfserv.maxim-ic.com/en/ds/HI-508A-MAX359.pdf
footprint JE16 (DIP, 16-Leads, Row Spacing 7.62mm, Pitch 2.54mm, Body 20.37x6.73mm)
3D model JE16 (DIP, 16-Pin, Row Spacing 7.62 mm, Pitch 2.54 mm)
pins: 1 A0 (in), 2 EN (in), 3 VEE (power), 4 IN1 (io), 5 IN2 (io), 6 IN3 (io), 7 IN4 (io), 8 OUT (io), 9 IN8 (io), 10 IN7 (io), 11 IN6 (io), 12 IN5 (io), 13 VDD (power), 14 GND (power), 15 A2 (in), 16 A1 (in)

## MAX358CPE
designator U?
Fault-Protected Analog Multiplexer; Published: 16-Jan-2001; LatestRevisionDate: 29-May-2009; LatestRevisionNote: Component Body Added.; DatasheetVersion: Apr-1988; PackageVersion: 1997; PackageReference: PE16A; Publisher: Altium Limited; PackageDescription: DIP, 16-Pin, Row Spacing 7.62 mm, Pitch 2.54 mm; Code_JEDEC: MS-001-BB; ComponentLink1Description: Manufacturer Link; ComponentLink1URL: http://www.maxim-ic.com/; ComponentLink2Description: Datasheet; ComponentLink2URL: http://pdfserv.maxim-ic.com/en/ds/HI-508A-MAX359.pdf
footprint PE16A (DIP, 16-Leads, Row Spacing 7.62mm, Pitch 2.54mm, Body 19.18x6.99mm)
3D model PE16 (DIP, 16-Pin, Row Spacing 7.62 mm, Pitch 2.54 mm)
pins: 1 A0 (in), 2 EN (in), 3 VEE (power), 4 IN1 (io), 5 IN2 (io), 6 IN3 (io), 7 IN4 (io), 8 OUT (io), 9 IN8 (io), 10 IN7 (io), 11 IN6 (io), 12 IN5 (io), 13 VDD (power), 14 GND (power), 15 A2 (in), 16 A1 (in)

## MAX358CWE
designator U?
Fault-Protected Analog Multiplexer; Published: 16-Jan-2001; LatestRevisionDate: 13-Apr-2006; LatestRevisionNote: IPC-7351 Footprint Added.; DatasheetVersion: Apr-1988; PackageReference: WSO16; Publisher: Altium Limited; PackageDescription: 16-Pin Small Outline Integrated Circuit 1.27 mm Pitch; Code_JEDEC: MS-013-AA; Code_IPC: SOIC127P1030-16; ComponentLink1Description: Manufacturer Link; ComponentLink1URL: http://www.maxim-ic.com/; ComponentLink2Description: Datasheet; ComponentLink2URL: http://pdfserv.maxim-ic.com/en/ds/HI-508A-MAX359.pdf
footprint WSO16_N (SOIC, 16-Leads, Body 10.3x7.5mm, Pitch 1.27mm, IPC Medium Density)
footprint WSO16_L (SOIC, 16-Leads, Body 10.3x7.5mm, Pitch 1.27mm, IPC High Density)
footprint WSO16_M (SOIC, 16-Leads, Body 10.3x7.5mm, Pitch 1.27mm, IPC Low Density)
3D model WSO16 (16-Pin Small Outline Integrated Circuit 1.27 mm Pitch)
pins: 1 A0 (in), 2 EN (in), 3 VEE (power), 4 IN1 (io), 5 IN2 (io), 6 IN3 (io), 7 IN4 (io), 8 OUT (io), 9 IN8 (io), 10 IN7 (io), 11 IN6 (io), 12 IN5 (io), 13 VDD (power), 14 GND (power), 15 A2 (in), 16 A1 (in)

## MAX358MJE
designator U?
Fault-Protected Analog Multiplexer; Published: 16-Jan-2001; LatestRevisionDate: 29-May-2009; LatestRevisionNote: Component Body Added.; DatasheetVersion: Apr-1988; PackageVersion: 1996; PackageReference: JE16; Publisher: Altium Limited; PackageDescription: DIP, 16-Pin, Row Spacing 7.62 mm, Pitch 2.54 mm; ComponentLink1Description: Manufacturer Link; ComponentLink1URL: http://www.maxim-ic.com/; ComponentLink2Description: Datasheet; ComponentLink2URL: http://pdfserv.maxim-ic.com/en/ds/HI-508A-MAX359.pdf
footprint JE16 (DIP, 16-Leads, Row Spacing 7.62mm, Pitch 2.54mm, Body 20.37x6.73mm)
3D model JE16 (DIP, 16-Pin, Row Spacing 7.62 mm, Pitch 2.54 mm)
pins: 1 A0 (in), 2 EN (in), 3 VEE (power), 4 IN1 (io), 5 IN2 (io), 6 IN3 (io), 7 IN4 (io), 8 OUT (io), 9 IN8 (io), 10 IN7 (io), 11 IN6 (io), 12 IN5 (io), 13 VDD (power), 14 GND (power), 15 A2 (in), 16 A1 (in)

## MAX359CJE
designator U?
Fault-Protected Analog Multiplexer; Published: 16-Jan-2001; LatestRevisionDate: 29-May-2009; LatestRevisionNote: Component Body Added.; DatasheetVersion: Apr-1988; PackageVersion: 1996; PackageReference: JE16; Publisher: Altium Limited; PackageDescription: DIP, 16-Pin, Row Spacing 7.62 mm, Pitch 2.54 mm; ComponentLink1Description: Manufacturer Link; ComponentLink1URL: http://www.maxim-ic.com/; ComponentLink2Description: Datasheet; ComponentLink2URL: http://pdfserv.maxim-ic.com/en/ds/HI-508A-MAX359.pdf
footprint JE16 (DIP, 16-Leads, Row Spacing 7.62mm, Pitch 2.54mm, Body 20.37x6.73mm)
3D model JE16 (DIP, 16-Pin, Row Spacing 7.62 mm, Pitch 2.54 mm)
pins: 1 A0 (in), 2 EN (in), 3 VEE (power), 4 IN1A (io), 5 IN2A (io), 6 IN3A (io), 7 IN4A (io), 8 OUTA (io), 9 OUTB (io), 10 IN4B (io), 11 IN3B (io), 12 IN2B (io), 13 IN1B (io), 14 VDD (power), 15 GND (power), 16 A1 (in)

## MAX359CPE
designator U?
Fault-Protected Analog Multiplexer; Published: 16-Jan-2001; LatestRevisionDate: 29-May-2009; LatestRevisionNote: Component Body Added.; DatasheetVersion: Apr-1988; PackageVersion: 1997; PackageReference: PE16A; Publisher: Altium Limited; PackageDescription: DIP, 16-Pin, Row Spacing 7.62 mm, Pitch 2.54 mm; Code_JEDEC: MS-001-BB; ComponentLink1Description: Manufacturer Link; ComponentLink1URL: http://www.maxim-ic.com/; ComponentLink2Description: Datasheet; ComponentLink2URL: http://pdfserv.maxim-ic.com/en/ds/HI-508A-MAX359.pdf
footprint PE16A (DIP, 16-Leads, Row Spacing 7.62mm, Pitch 2.54mm, Body 19.18x6.99mm)
3D model PE16 (DIP, 16-Pin, Row Spacing 7.62 mm, Pitch 2.54 mm)
pins: 1 A0 (in), 2 EN (in), 3 VEE (power), 4 IN1A (io), 5 IN2A (io), 6 IN3A (io), 7 IN4A (io), 8 OUTA (io), 9 OUTB (io), 10 IN4B (io), 11 IN3B (io), 12 IN2B (io), 13 IN1B (io), 14 VDD (power), 15 GND (power), 16 A1 (in)

## MAX359CWE
designator U?
Fault-Protected Analog Multiplexer; Published: 16-Jan-2001; LatestRevisionDate: 13-Apr-2006; LatestRevisionNote: IPC-7351 Footprint Added.; DatasheetVersion: Apr-1988; PackageReference: WSO16; Publisher: Altium Limited; PackageDescription: 16-Pin Small Outline Integrated Circuit 1.27 mm Pitch; Code_JEDEC: MS-013-AA; Code_IPC: SOIC127P1030-16; ComponentLink1Description: Manufacturer Link; ComponentLink1URL: http://www.maxim-ic.com/; ComponentLink2Description: Datasheet; ComponentLink2URL: http://pdfserv.maxim-ic.com/en/ds/HI-508A-MAX359.pdf
footprint WSO16_N (SOIC, 16-Leads, Body 10.3x7.5mm, Pitch 1.27mm, IPC Medium Density)
footprint WSO16_L (SOIC, 16-Leads, Body 10.3x7.5mm, Pitch 1.27mm, IPC High Density)
footprint WSO16_M (SOIC, 16-Leads, Body 10.3x7.5mm, Pitch 1.27mm, IPC Low Density)
3D model WSO16 (16-Pin Small Outline Integrated Circuit 1.27 mm Pitch)
pins: 1 A0 (in), 2 EN (in), 3 VEE (power), 4 IN1A (io), 5 IN2A (io), 6 IN3A (io), 7 IN4A (io), 8 OUTA (io), 9 OUTB (io), 10 IN4B (io), 11 IN3B (io), 12 IN2B (io), 13 IN1B (io), 14 VDD (power), 15 GND (power), 16 A1 (in)

## MAX359MJE
designator U?
Fault-Protected Analog Multiplexer; Published: 16-Jan-2001; LatestRevisionDate: 29-May-2009; LatestRevisionNote: Component Body Added.; DatasheetVersion: Apr-1988; PackageVersion: 1996; PackageReference: JE16; Publisher: Altium Limited; PackageDescription: DIP, 16-Pin, Row Spacing 7.62 mm, Pitch 2.54 mm; ComponentLink1Description: Manufacturer Link; ComponentLink1URL: http://www.maxim-ic.com/; ComponentLink2Description: Datasheet; ComponentLink2URL: http://pdfserv.maxim-ic.com/en/ds/HI-508A-MAX359.pdf
footprint JE16 (DIP, 16-Leads, Row Spacing 7.62mm, Pitch 2.54mm, Body 20.37x6.73mm)
3D model JE16 (DIP, 16-Pin, Row Spacing 7.62 mm, Pitch 2.54 mm)
pins: 1 A0 (in), 2 EN (in), 3 VEE (power), 4 IN1A (io), 5 IN2A (io), 6 IN3A (io), 7 IN4A (io), 8 OUTA (io), 9 OUTB (io), 10 IN4B (io), 11 IN3B (io), 12 IN2B (io), 13 IN1B (io), 14 VDD (power), 15 GND (power), 16 A1 (in)

## MAX368CJN
designator U?
Fault-Protected Analog Multiplexer with Latch; Published: 16-Jan-2001; LatestRevisionDate: 29-May-2009; LatestRevisionNote: Component Body Added.; DatasheetVersion: Jul-1996; PackageVersion: 1996; PackageReference: JN18; Publisher: Altium Limited; PackageDescription: DIP, 18-Pin, Row Spacing 7.62 mm, Pitch 2.54 mm; ComponentLink1Description: Manufacturer Link; ComponentLink1URL: http://www.maxim-ic.com/; ComponentLink2Description: Datasheet; ComponentLink2URL: http://pdfserv.maxim-ic.com/en/ds/MAX368-MAX369.pdf
footprint JN18 (DIP, 18-Leads, Row Spacing 7.62mm, Pitch 2.54mm, Body 24.13x6.73mm)
3D model JN18 (DIP, 18-Pin, Row Spacing 7.62 mm, Pitch 2.54 mm)
pins: 1 ~{WR} (in), 2 A0 (in), 3 EN (in), 4 VEE (power), 5 IN1 (io), 6 IN2 (io), 7 IN3 (io), 8 IN4 (io), 9 OUT (io), 10 IN8 (io), 11 IN7 (io), 12 IN6 (io), 13 IN5 (io), 14 VDD (power), 15 GND (power), 16 A2 (in), 17 A1 (in), 18 ~{RST} (in)

## MAX368CPN
designator U?
Fault-Protected Analog Multiplexer with Latch; Published: 16-Jan-2001; LatestRevisionDate: 29-May-2009; LatestRevisionNote: Component Body Added.; DatasheetVersion: Jul-1996; PackageVersion: 1997; PackageReference: PN18A; Publisher: Altium Limited; PackageDescription: DIP, 18-Pin, Row Spacing 7.62 mm, Pitch 2.54 mm; ComponentLink1Description: Manufacturer Link; ComponentLink1URL: http://www.maxim-ic.com/; ComponentLink2Description: Datasheet; ComponentLink2URL: http://pdfserv.maxim-ic.com/en/ds/MAX368-MAX369.pdf
footprint PN18A (DIP, 18-Leads, Row Spacing 7.62mm, Pitch 2.54mm, Body 22.86x6.99mm)
3D model PN18 (DIP, 18-Pin, Row Spacing 7.62 mm, Pitch 2.54 mm)
pins: 1 ~{WR} (in), 2 A0 (in), 3 EN (in), 4 VEE (power), 5 IN1 (io), 6 IN2 (io), 7 IN3 (io), 8 IN4 (io), 9 OUT (io), 10 IN8 (io), 11 IN7 (io), 12 IN6 (io), 13 IN5 (io), 14 VDD (power), 15 GND (power), 16 A2 (in), 17 A1 (in), 18 ~{RST} (in)

## MAX368EJN
designator U?
Fault-Protected Analog Multiplexer with Latch; Published: 16-Jan-2001; LatestRevisionDate: 29-May-2009; LatestRevisionNote: Component Body Added.; DatasheetVersion: Jul-1996; PackageVersion: 1996; PackageReference: JN18; Publisher: Altium Limited; PackageDescription: DIP, 18-Pin, Row Spacing 7.62 mm, Pitch 2.54 mm; ComponentLink1Description: Manufacturer Link; ComponentLink1URL: http://www.maxim-ic.com/; ComponentLink2Description: Datasheet; ComponentLink2URL: http://pdfserv.maxim-ic.com/en/ds/MAX368-MAX369.pdf
footprint JN18 (DIP, 18-Leads, Row Spacing 7.62mm, Pitch 2.54mm, Body 24.13x6.73mm)
3D model JN18 (DIP, 18-Pin, Row Spacing 7.62 mm, Pitch 2.54 mm)
pins: 1 ~{WR} (in), 2 A0 (in), 3 EN (in), 4 VEE (power), 5 IN1 (io), 6 IN2 (io), 7 IN3 (io), 8 IN4 (io), 9 OUT (io), 10 IN8 (io), 11 IN7 (io), 12 IN6 (io), 13 IN5 (io), 14 VDD (power), 15 GND (power), 16 A2 (in), 17 A1 (in), 18 ~{RST} (in)

## MAX368EPN
designator U?
Fault-Protected Analog Multiplexer with Latch; Published: 16-Jan-2001; LatestRevisionDate: 29-May-2009; LatestRevisionNote: Component Body Added.; DatasheetVersion: Jul-1996; PackageVersion: 1997; PackageReference: PN18A; Publisher: Altium Limited; PackageDescription: DIP, 18-Pin, Row Spacing 7.62 mm, Pitch 2.54 mm; ComponentLink1Description: Manufacturer Link; ComponentLink1URL: http://www.maxim-ic.com/; ComponentLink2Description: Datasheet; ComponentLink2URL: http://pdfserv.maxim-ic.com/en/ds/MAX368-MAX369.pdf
footprint PN18A (DIP, 18-Leads, Row Spacing 7.62mm, Pitch 2.54mm, Body 22.86x6.99mm)
3D model PN18 (DIP, 18-Pin, Row Spacing 7.62 mm, Pitch 2.54 mm)
pins: 1 ~{WR} (in), 2 A0 (in), 3 EN (in), 4 VEE (power), 5 IN1 (io), 6 IN2 (io), 7 IN3 (io), 8 IN4 (io), 9 OUT (io), 10 IN8 (io), 11 IN7 (io), 12 IN6 (io), 13 IN5 (io), 14 VDD (power), 15 GND (power), 16 A2 (in), 17 A1 (in), 18 ~{RST} (in)

## MAX368MJN
designator U?
Fault-Protected Analog Multiplexer with Latch; Published: 16-Jan-2001; LatestRevisionDate: 29-May-2009; LatestRevisionNote: Component Body Added.; DatasheetVersion: Jul-1996; PackageVersion: 1996; PackageReference: JN18; Publisher: Altium Limited; PackageDescription: DIP, 18-Pin, Row Spacing 7.62 mm, Pitch 2.54 mm; ComponentLink1Description: Manufacturer Link; ComponentLink1URL: http://www.maxim-ic.com/; ComponentLink2Description: Datasheet; ComponentLink2URL: http://pdfserv.maxim-ic.com/en/ds/MAX368-MAX369.pdf
footprint JN18 (DIP, 18-Leads, Row Spacing 7.62mm, Pitch 2.54mm, Body 24.13x6.73mm)
3D model JN18 (DIP, 18-Pin, Row Spacing 7.62 mm, Pitch 2.54 mm)
pins: 1 ~{WR} (in), 2 A0 (in), 3 EN (in), 4 VEE (power), 5 IN1 (io), 6 IN2 (io), 7 IN3 (io), 8 IN4 (io), 9 OUT (io), 10 IN8 (io), 11 IN7 (io), 12 IN6 (io), 13 IN5 (io), 14 VDD (power), 15 GND (power), 16 A2 (in), 17 A1 (in), 18 ~{RST} (in)

## MAX369CJN
designator U?
Fault-protected Analog Multiplexer with Latch; Published: 16-Jan-2001; LatestRevisionDate: 29-May-2009; LatestRevisionNote: Component Body Added.; DatasheetVersion: Jul-1996; PackageVersion: 1996; PackageReference: JN18; Publisher: Altium Limited; PackageDescription: DIP, 18-Pin, Row Spacing 7.62 mm, Pitch 2.54 mm; ComponentLink1Description: Manufacturer Link; ComponentLink1URL: http://www.maxim-ic.com/; ComponentLink2Description: Datasheet; ComponentLink2URL: http://pdfserv.maxim-ic.com/en/ds/MAX368-MAX369.pdf
footprint JN18 (DIP, 18-Leads, Row Spacing 7.62mm, Pitch 2.54mm, Body 24.13x6.73mm)
3D model JN18 (DIP, 18-Pin, Row Spacing 7.62 mm, Pitch 2.54 mm)
pins: 1 ~{WR} (in), 2 A0 (in), 3 EN (in), 4 VEE (power), 5 IN1A (io), 6 IN2A (io), 7 IN3A (io), 8 IN4A (io), 9 OUTA (io), 10 OUTB (io), 11 IN4B (io), 12 IN3B (io), 13 IN2B (io), 14 IN1B (io), 15 VDD (power), 16 GND (power), 17 A1 (in), 18 ~{RST} (in)

## MAX369CPN
designator U?
Fault-protected Analog Multiplexer with Latch; Published: 16-Jan-2001; LatestRevisionDate: 29-May-2009; LatestRevisionNote: Component Body Added.; DatasheetVersion: Jul-1996; PackageVersion: 1997; PackageReference: PN18A; Publisher: Altium Limited; PackageDescription: DIP, 18-Pin, Row Spacing 7.62 mm, Pitch 2.54 mm; ComponentLink1Description: Manufacturer Link; ComponentLink1URL: http://www.maxim-ic.com/; ComponentLink2Description: Datasheet; ComponentLink2URL: http://pdfserv.maxim-ic.com/en/ds/MAX368-MAX369.pdf
footprint PN18A (DIP, 18-Leads, Row Spacing 7.62mm, Pitch 2.54mm, Body 22.86x6.99mm)
3D model PN18 (DIP, 18-Pin, Row Spacing 7.62 mm, Pitch 2.54 mm)
pins: 1 ~{WR} (in), 2 A0 (in), 3 EN (in), 4 VEE (power), 5 IN1A (io), 6 IN2A (io), 7 IN3A (io), 8 IN4A (io), 9 OUTA (io), 10 OUTB (io), 11 IN4B (io), 12 IN3B (io), 13 IN2B (io), 14 IN1B (io), 15 VDD (power), 16 GND (power), 17 A1 (in), 18 ~{RST} (in)

## MAX369EJN
designator U?
Fault-protected Analog Multiplexer with Latch; Published: 16-Jan-2001; LatestRevisionDate: 29-May-2009; LatestRevisionNote: Component Body Added.; DatasheetVersion: Jul-1996; PackageVersion: 1996; PackageReference: JN18; Publisher: Altium Limited; PackageDescription: DIP, 18-Pin, Row Spacing 7.62 mm, Pitch 2.54 mm; ComponentLink1Description: Manufacturer Link; ComponentLink1URL: http://www.maxim-ic.com/; ComponentLink2Description: Datasheet; ComponentLink2URL: http://pdfserv.maxim-ic.com/en/ds/MAX368-MAX369.pdf
footprint JN18 (DIP, 18-Leads, Row Spacing 7.62mm, Pitch 2.54mm, Body 24.13x6.73mm)
3D model JN18 (DIP, 18-Pin, Row Spacing 7.62 mm, Pitch 2.54 mm)
pins: 1 ~{WR} (in), 2 A0 (in), 3 EN (in), 4 VEE (power), 5 IN1A (io), 6 IN2A (io), 7 IN3A (io), 8 IN4A (io), 9 OUTA (io), 10 OUTB (io), 11 IN4B (io), 12 IN3B (io), 13 IN2B (io), 14 IN1B (io), 15 VDD (power), 16 GND (power), 17 A1 (in), 18 ~{RST} (in)